# Altium schematic symbol library SJ1-3523N.SchLib: 1 symbol
Pins are listed as number, name and electrical type; pins without a type are passive.

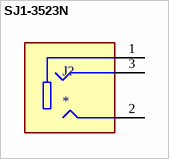
[diagram p0: symbol SJ1-3523N]

## SJ1-3523N
designator J?
3.5 mm, Stereo, Right Angle, Through Hole, 3 Conductors, 0 Internal Switches, Audio Jack Connector; MF: Same Sky; MP: SJ1-3523N; SnapEDA_Link: https://www.snapeda.com/parts/SJ1-3523N/Same+Sky/view-part/?ref=snap; Package: None; Value: *; Check_prices: https://www.snapeda.com/parts/SJ1-3523N/Same+Sky/view-part/?ref=eda
footprint CUI_SJ1-3523N
pins: 1, 2, 3